# Altium integrated library C1206C220F4HACAUTO.IntLib: 1 symbol
Pins are listed as number, name and electrical type; pins without a type are passive.

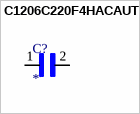
[diagram p0: symbol C1206C220F4HACAUTO]

## C1206C220F4HACAUTO
designator C?
MP: C1206C220F4HACAUTO; Package: None; Price: None; Value: *; Availability: Unavailable
footprint CAPC3216X88N
footprint CAPC3216X88N
pins: 1, 2